# Altium footprint library AmpOp.PcbLib: 5 footprints
Each footprint in its own frame and in the unit in brackets; x right, y up, seen from the top. Pads: shape width x height; smd on the part's side, far side on the other; paste and mask are expansions set on the pad; w line width, h text height; cw(c..) or ccw(c..) is an arc to the next point about the centre after c.
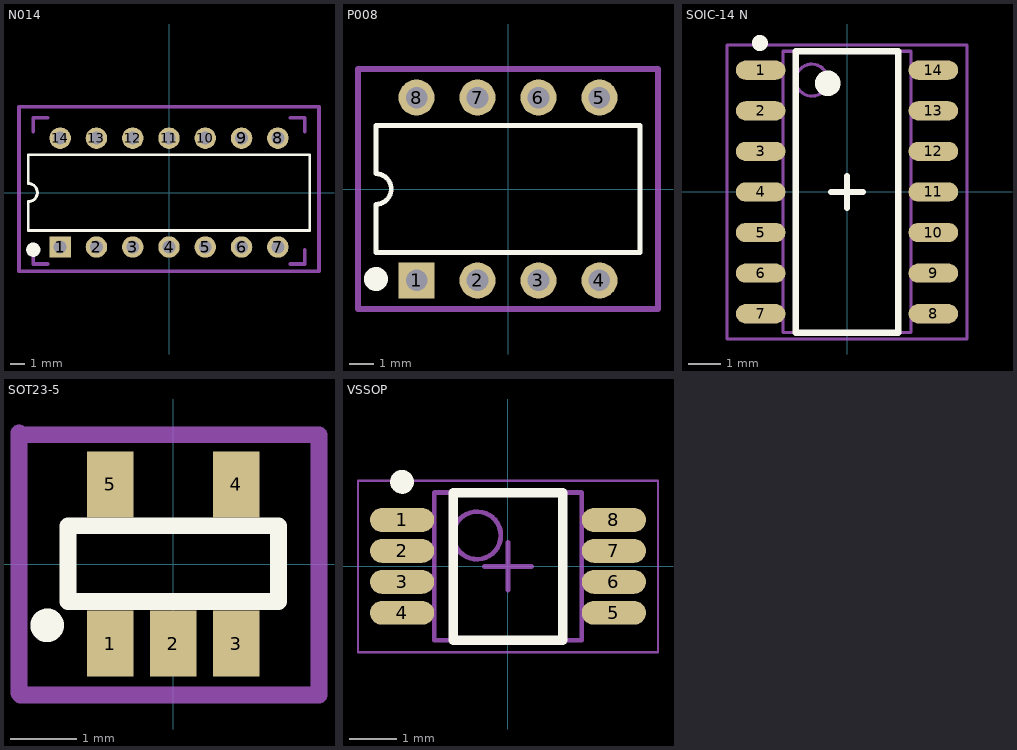
[diagram p0: the footprints below, top view; thin cyan lines are the x and y axes]

## N014 [mm] "DIP; 14 Leads; Row Spacing 7.62 mm; Pitch 2.54 mm"
height 5.08
pads (14):
  rect 1.5x1.5 hole 0.9: 1(-7.62,-3.81)
  round 1.5 hole 0.9: 2(-5.08,-3.81) 3(-2.54,-3.81) 4(0,-3.81) 5(2.54,-3.81) 6(5.08,-3.81) 7(7.62,-3.81) 8(7.62,3.81) 9(5.08,3.81) 10(2.54,3.81) 11(0,3.81) 12(-2.54,3.81) 13(-5.08,3.81) 14(-7.62,3.81)
Top Overlay:
  circle w0.5: c-9.5,-4 r0.25
  lines w0.2: -9.85,-2.65 -9.85,-0.635 ccw(c-9.85,0) -9.85,0.635 -9.85,2.65 9.85,2.65 9.85,-2.65 -9.85,-2.65
Mechanical 13:
  lines w0.254: -9.5,-4 -9.5,-5 -8.5,-5 ; -9.5,4.25 -9.5,5.25 -8.5,5.25 ; 8.5,-5 9.5,-5 9.5,-4 ; 8.5,5.25 9.5,5.25 9.5,4.25
Mechanical 15:
  lines w0.254: -10.5,-5.5 -10.5,6 10.5,6 10.5,-5.5 -10.5,-5.5
3D body: height 7.3, standoff -3, extent -9.525,-5 9.525,5.16

## P008 [mm] "DIP; 8 Leads; Row Spacing 7.62 mm; Pitch 2.54 mm"
height 5.08
pads (8):
  rect 1.5x1.5 hole 0.9: 1(-3.81,-3.81)
  round 1.5 hole 0.9: 2(-1.27,-3.81) 3(1.27,-3.81) 4(3.81,-3.81) 5(3.81,3.81) 6(1.27,3.81) 7(-1.27,3.81) 8(-3.81,3.81)
Top Overlay:
  circle w0.5: c-5.5,-3.75 r0.25
  lines w0.2: -5.5,-2.65 5.5,-2.65 5.5,2.65 -5.5,2.65 -5.5,0.635 cw(c-5.5,0) -5.5,-0.635 -5.5,-2.65
Mechanical 15:
  lines w0.254: -6.25,-5 -6.25,5 6.25,5 6.25,-5 -6.25,-5
3D body: height 3.85, standoff -2, extent -4.6,-3.935 4.6,3.935

## SOIC-14 N [mm]
height 1.75
pads (14):
  oval 1.55x0.6 smd: 1(-2.7,3.81) 2(-2.7,2.54) 3(-2.7,1.27) 4(-2.7,0) 5(-2.7,-1.27) 6(-2.7,-2.54) 7(-2.7,-3.81) 8(2.7,-3.81) 9(2.7,-2.54) 10(2.7,-1.27) 11(2.7,0) 12(2.7,1.27) 13(2.7,2.54) 14(2.7,3.81)
Top Overlay:
  circle w0.4: c-0.6,3.4 r0.2
  circle w0.25: c-2.725,4.66 r0.125
  lines w0.2: -0.5,0 0.5,0 ; 0,-0.5 0,0.5 ; -1.6,-4.4 1.6,-4.4 1.6,4.4 -1.6,4.4 -1.6,-4.4
Mechanical 13:
  circle w0.1: c-1.1,3.5 r0.5
  lines w0.1: -2,-4.4 2,-4.4 2,4.4 -2,4.4 -2,-4.4
Mechanical 15:
  lines w0.1: -0.5,0 0.5,0 ; 0,-0.5 0,0.5 ; -3.75,-4.6 3.75,-4.6 3.75,4.6 -3.75,4.6 -3.75,-4.6
Mechanical 29:
  text ".Designator" at 0,0 h1
3D body: height 1.7, standoff 0, extent -3,-4.4 3,4.4

## SOT23-5 [mm] "Regulador 3.3v"
pads (5):
  rect 0.7x1 smd: 1(-0.95,-1.2) 2(0,-1.2) 3(0.95,-1.2) 4(0.95,1.2) 5(-0.95,1.2)
Top Overlay:
  circle w0.254: c-1.9,-0.925 r0.127
  lines w0.254: -1.585,-0.565 1.59,-0.565 1.59,0.578 -1.585,0.578 -1.585,-0.565
Mechanical 15:
  lines w0.254: 2.2,1.95 2.2,-1.975 -2.3,-1.975 -2.325,-1.95 -2.325,1.975 -2.3,1.95 2.2,1.95 ; 2.2,1.95 2.2,1.95
3D body: height 1.32, standoff 0.02, extent -1.5,-1.55 1.5,1.45

## VSSOP [mm] "TSOP, 8-Leads, Body 3,00x3,00mm, Pitch 0,65mm, IPC Medium Density"
height 1.1
pads (8):
  oval 1.35x0.5 smd: 1(-2.225,0.975) 2(-2.225,0.325) 3(-2.225,-0.325) 4(-2.225,-0.975) 5(2.225,-0.975) 6(2.225,-0.325) 7(2.225,0.325) 8(2.225,0.975)
Top Overlay:
  circle w0.25: c-2.225,1.775 r0.125
  lines w0.2: -1.15,-1.55 -1.15,1.55 1.15,1.55 1.15,-1.55 -1.15,-1.55
Mechanical 13:
  circle w0.1: c-0.65,0.65 r0.5
  lines w0.1: -1.55,-1.55 -1.55,1.55 1.55,1.55 1.55,-1.55 -1.55,-1.55
Mechanical 15:
  lines w0.05: -3.15,-1.8 -3.15,1.8 3.15,1.8 3.15,-1.8 -3.15,-1.8
  lines w0.1: -0.5,0 0.5,0 ; 0,-0.5 0,0.5
3D body: height 1.1, standoff 0, extent -2.4,-1.575 2.5,1.525